# Altium footprint library IMTP Александр Электрик.PcbLib: 4 footprints
Each footprint in its own frame and in the unit in brackets; x right, y up, seen from the top. Pads: shape width x height; smd on the part's side, far side on the other; paste and mask are expansions set on the pad; w line width, h text height; cw(c..) or ccw(c..) is an arc to the next point about the centre after c.
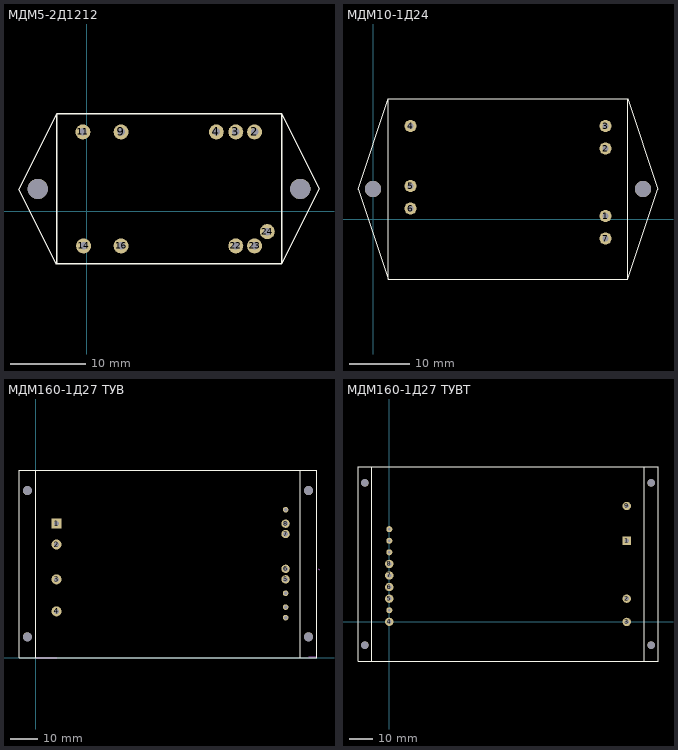
[diagram p0: the footprints below, top view; thin cyan lines are the x and y axes]

## МДМ5-2Д1212 [mm]
height 10
pads (12):
  round 2 hole 1: 2(22.4,10.6) 3(19.9,10.6) 4(17.3,10.6) 9(4.6,10.6) 11(-0.5,10.6) 14(-0.4,-4.6) 16(4.6,-4.6) 22(19.9,-4.6) 23(22.4,-4.6) 24(24.1,-2.7)
  round 2.7 hole 2.7 unplated: ""(-6.5,3) ""(28.5,3)
Top Overlay:
  lines w0.2: -9.012,2.981 -4.012,-7.019 ; -9,3 -4,13 ; -4,13 -4,-7 26,-7 ; -4,13 26,13 ; 26,-7 26,13 ; 26,-7 31,3 26,13
3D body: height 10, standoff 0, extent -4,-7 26,13
3D body: height 10, standoff 8, extent 26,-7 31,13
3D body: height -0.2, standoff -4, extent 23.653,-3.059 24.45,-2.261
3D body: height -0.2, standoff -4, extent 22.033,-5.029 22.83,-4.231
3D body: height -0.2, standoff -4, extent 19.503,-4.999 20.3,-4.201
3D body: height -0.2, standoff -4, extent 22.003,10.201 22.8,10.999
3D body: height -0.2, standoff -4, extent 19.503,10.201 20.3,10.999
3D body: height -0.2, standoff -4, extent 16.903,10.201 17.7,10.999
3D body: height -0.2, standoff -4, extent 4.203,10.201 5,10.999
3D body: height -0.2, standoff -4, extent -0.897,10.201 -0.1,10.999
3D body: height -0.2, standoff -4, extent -0.797,-4.999 0,-4.201
3D body: height -0.2, standoff -4, extent 4.203,-4.999 5,-4.201
3D body: height 10, standoff 8, extent -9,-7 -4,13

## МДМ10-1Д24 [mm]
height 10.15
pads (9):
  round 2 hole 1: 1(38.75,0.5) 2(38.75,11.75) 3(38.75,15.5) 4(6.25,15.5) 5(6.25,5.5) 6(6.25,1.75) 7(38.75,-3.25)
  round 2.7 hole 2.7 unplated: ""(0,5) ""(45,5)
Top Overlay:
  lines w0.2: 2.5,15 2.5,-10 ; 6.25,-10 2.5,-10 ; 38.75,-10 2.5,-10 ; 2.5,-10 2.5,20 ; 2.5,-10 32.5,-10 42.5,-10 ; 2.5,-10 -2.5,5 2.5,20 ; 2.5,20 42.5,20 ; 42.5,-10 42.5,20 ; 42.5,-10 47.5,5 42.5,20
3D body: height -0.2, standoff -4, extent 38.353,15.101 39.15,15.899
3D body: height -0.2, standoff -4, extent 38.353,11.351 39.15,12.149
3D body: height -0.2, standoff -4, extent 38.353,0.101 39.15,0.899
3D body: height -0.2, standoff -4, extent 38.353,-3.649 39.15,-2.851
3D body: height -0.2, standoff -4, extent 5.853,15.101 6.65,15.899
3D body: height -0.2, standoff -4, extent 5.853,1.351 6.65,2.149
3D body: height -0.2, standoff -4, extent 5.853,5.101 6.65,5.899
3D body: height 10.15, standoff 8, extent -2.5,-10 2.5,20
3D body: height 10.15, standoff 8, extent 42.5,-10 47.5,20
3D body: height 10.15, standoff 0, extent 2.5,-10 42.5,20

## МДМ160-1Д27 ТУВ [mm]
height 13
pads (16):
  rect 3.6x3.6 hole 1.8 unplated: 1(7.5,48.25)
  round 3.6 hole 1.8 unplated: 2(7.5,40.75) 3(7.5,28.25) 4(7.5,16.75)
  round 3 hole 1.8 unplated: 5(89.75,28.25) 6(89.75,32) 7(89.75,44.5) 8(89.75,48.25)
  round 2 hole 1.2 unplated: 9(89.75,53.25) 10(89.75,23.25) 11(89.75,18.25) 12(89.75,14.5)
  round 3.2 hole 3.2 unplated: ""(-3,7.6) ""(-3,60.1) ""(98,7.6) ""(98,60.1)
Top Overlay:
  lines w0.2: 0,0 -6,0 -6,67.5 0,67.5 ; 0,0 95,0 ; 0,0 0,67.5 ; 0,67.5 95,67.5 ; 95,0 101,0 101,67.5 95,67.5 ; 95,0 95,67.5
Mechanical 3:
  lines w0.2: 0,0 7.5,0 ; 98,0.5 101,0.5 ; 101.5,32 101.75,31.75
3D body: height 1.5, standoff -2.5, extent 6.87,16.015 8.364,17.513
3D body: height 11.5, standoff 1.5, extent 0,0 94.996,67.564
3D body: height 14.5, standoff 11.5, extent -6,0 101,67.564
3D body: height 1.5, standoff -2.5, extent 89.166,22.869 90.162,23.867
3D body: height 1.5, standoff -2.5, extent 89.166,17.789 90.162,18.787
3D body: height 1.5, standoff -2.5, extent 89.166,13.979 90.162,14.977
3D body: height 1.5, standoff -2.5, extent 88.918,47.511 90.412,49.008
3D body: height 1.5, standoff -2.5, extent 88.912,43.925 90.406,45.422
3D body: height 1.5, standoff -2.5, extent 88.918,31.256 90.412,32.753
3D body: height 1.5, standoff -2.5, extent 88.918,27.7 90.412,29.197
3D body: height 1.5, standoff -2.5, extent 6.87,27.445 8.364,28.943
3D body: height 1.5, standoff -2.5, extent 89.162,52.841 90.158,53.839
3D body: height 1.5, standoff -2.5, extent 6.87,47.511 8.364,49.009
3D body: height 1.5, standoff -2.5, extent 6.873,39.878 8.367,41.375

## МДМ160-1Д27 ТУВТ [mm]
height 13
pads (17):
  rect 3.6x3.6 hole 1.8: 1(102.5,35.04)
  round 3.6 hole 1.8: 2(102.5,10.04) 3(102.5,0) 4(0,0.04) 5(0,10.04) 6(0,15.04) 7(0,20.04) 8(0,25.04) 9(102.5,50.04)
  round 2.6 hole 1.2: 10(0,40.04) 11(0,35.04) 12(0,30.04) 13(0,5.04)
  round 3.2 hole 3.2 unplated: ""(-10.5,-10) ""(-10.5,60) ""(113,-10) ""(113,60)
Top Overlay:
  lines w0.2: -7.5,-17 -7.5,67 ; 110,-17 110,67 ; -13.5,-17 -13.5,67 109.5,67 116,67 116,-17 0,-17 -13.5,-17
3D body: height -0.2, standoff -4, extent 101.006,8.538 103.994,11.532
3D body: height -0.2, standoff -4, extent 101.006,33.538 103.994,36.533
3D body: height -0.2, standoff -4, extent 101.006,48.538 103.994,51.532
3D body: height -0.2, standoff -4, extent -1.494,-1.461 1.494,1.533
3D body: height -0.2, standoff -4, extent -1.494,8.538 1.494,11.532
3D body: height -0.2, standoff -4, extent -1.494,13.538 1.494,16.533
3D body: height -0.2, standoff -4, extent -1.494,18.539 1.494,21.533
3D body: height -0.2, standoff -4, extent -1.494,23.539 1.494,26.533
3D body: height -0.2, standoff -4, extent -0.998,4.038 0.994,6.034
3D body: height -0.2, standoff -4, extent -0.998,29.037 0.994,31.034
3D body: height -0.2, standoff -4, extent -0.998,34.037 0.994,36.034
3D body: height -0.2, standoff -4, extent -0.998,39.037 0.994,41.034
3D body: height 13, standoff 10, extent -13.5,-17 116,67
3D body: height 10, standoff 0, extent -7.5,-17 110,67
3D body: height -0.2, standoff -4, extent -7.447,-7.49 7.494,7.481